# Altium schematic symbol library CM119BN.SchLib: 1 symbol
Pins are listed as number, name and electrical type; pins without a type are passive.

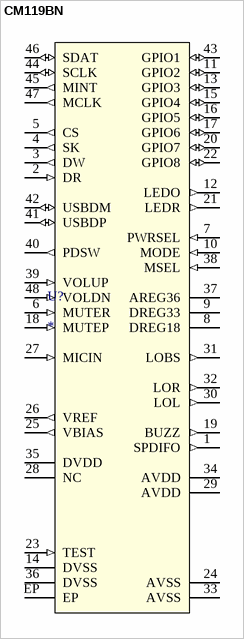
[diagram p0: symbol CM119BN]

## CM119BN
designator U?
pins: 1 SPDIFO (out), 2 DR (in), 3 DW (out), 4 SK (out), 5 CS (out), 6 MUTER (in), 7 PWRSEL (in), 8 DREG18, 9 DREG33, 10 MODE (in), 11 GPIO2 (io), 12 LEDO (out), 13 GPIO3 (io), 14 DVSS (power), 15 GPIO4 (io), 16 GPIO5 (io), 17 GPIO6 (io), 18 MUTEP (in), 19 BUZZ (out), 20 GPIO7 (io), 21 LEDR (out), 22 GPIO8 (io), 23 TEST (in), 24 AVSS (power), 25 VBIAS (out), 26 VREF (out), 27 MICIN (in), 28 NC, 29 AVDD (power), 30 LOL (out), 31 LOBS (out), 32 LOR (out), 33 AVSS (power), 34 AVDD (power), 35 DVDD (power), 36 DVSS (power), 37 AREG36, 38 MSEL (in), 39 VOLUP (in), 40 PDSW (out), 41 USBDP (io), 42 USBDM (io), 43 GPIO1 (io), 44 SCLK (io), 45 MINT (out), 46 SDAT (io), 47 MCLK (out), 48 VOLDN (in), EP (power)